# Altium schematic symbol library NCP167BFCT330T2G.SchLib: 1 symbol
Pins are listed as number, name and electrical type; pins without a type are passive.

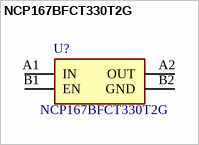
[diagram p0: symbol NCP167BFCT330T2G]

## NCP167BFCT330T2G
designator U?
ON SEMICONDUCTOR - NCP167BFCT330T2G - LDO, FIXED, 3.3V, 0.7A, -40 TO 125DEG C; Manufacturer_Name: onsemi; Geometry.Height: 0.33mm; Manufacturer_Part_Number: NCP167BFCT330T2G; Mouser Part Number: 863-NCP167BFCT330T2G; Mouser Price/Stock: https://www.mouser.co.uk/ProductDetail/onsemi/NCP167BFCT330T2G?qs=l7cgNqFNU1gQH4CpPGF7lw%3D%3D; Arrow Part Number: NCP167BFCT330T2G; Arrow Price/Stock: https://www.arrow.com/en/products/ncp167bfct330t2g/on-semiconductor?region=nac; Datasheet Link: https://www.onsemi.com/pub/Collateral/NCP167-D.PDF
footprint BGA4C35P2X2_64X64X33
pins: A1 IN, A2 OUT, B1 EN, B2 GND